# Altium schematic symbol library GCJ219R71H334KA12D.SchLib: 1 symbol
Pins are listed as number, name and electrical type; pins without a type are passive.

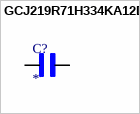
[diagram p0: symbol GCJ219R71H334KA12D]

## GCJ219R71H334KA12D
designator C?
Cap Ceramic 0.33uF 50V X7R 10% SMD 0805 125Â°C Paper T/R; MF: {'manufacturer': u'Murata'}; MP: GCJ219R71H334KA12D; Package: None; Price: None; Value: *; Availability: Unavailable
footprint CAPC2012X95N
pins: 1, 2